# Altium footprint library F429_F746_F767_Core.PcbLib: 18 footprints (part 1 of 2)
Each footprint in its own frame and in the unit in brackets; x right, y up, seen from the top. Pads: shape width x height; smd on the part's side, far side on the other; paste and mask are expansions set on the pad; w line width, h text height; cw(c..) or ccw(c..) is an arc to the next point about the centre after c.
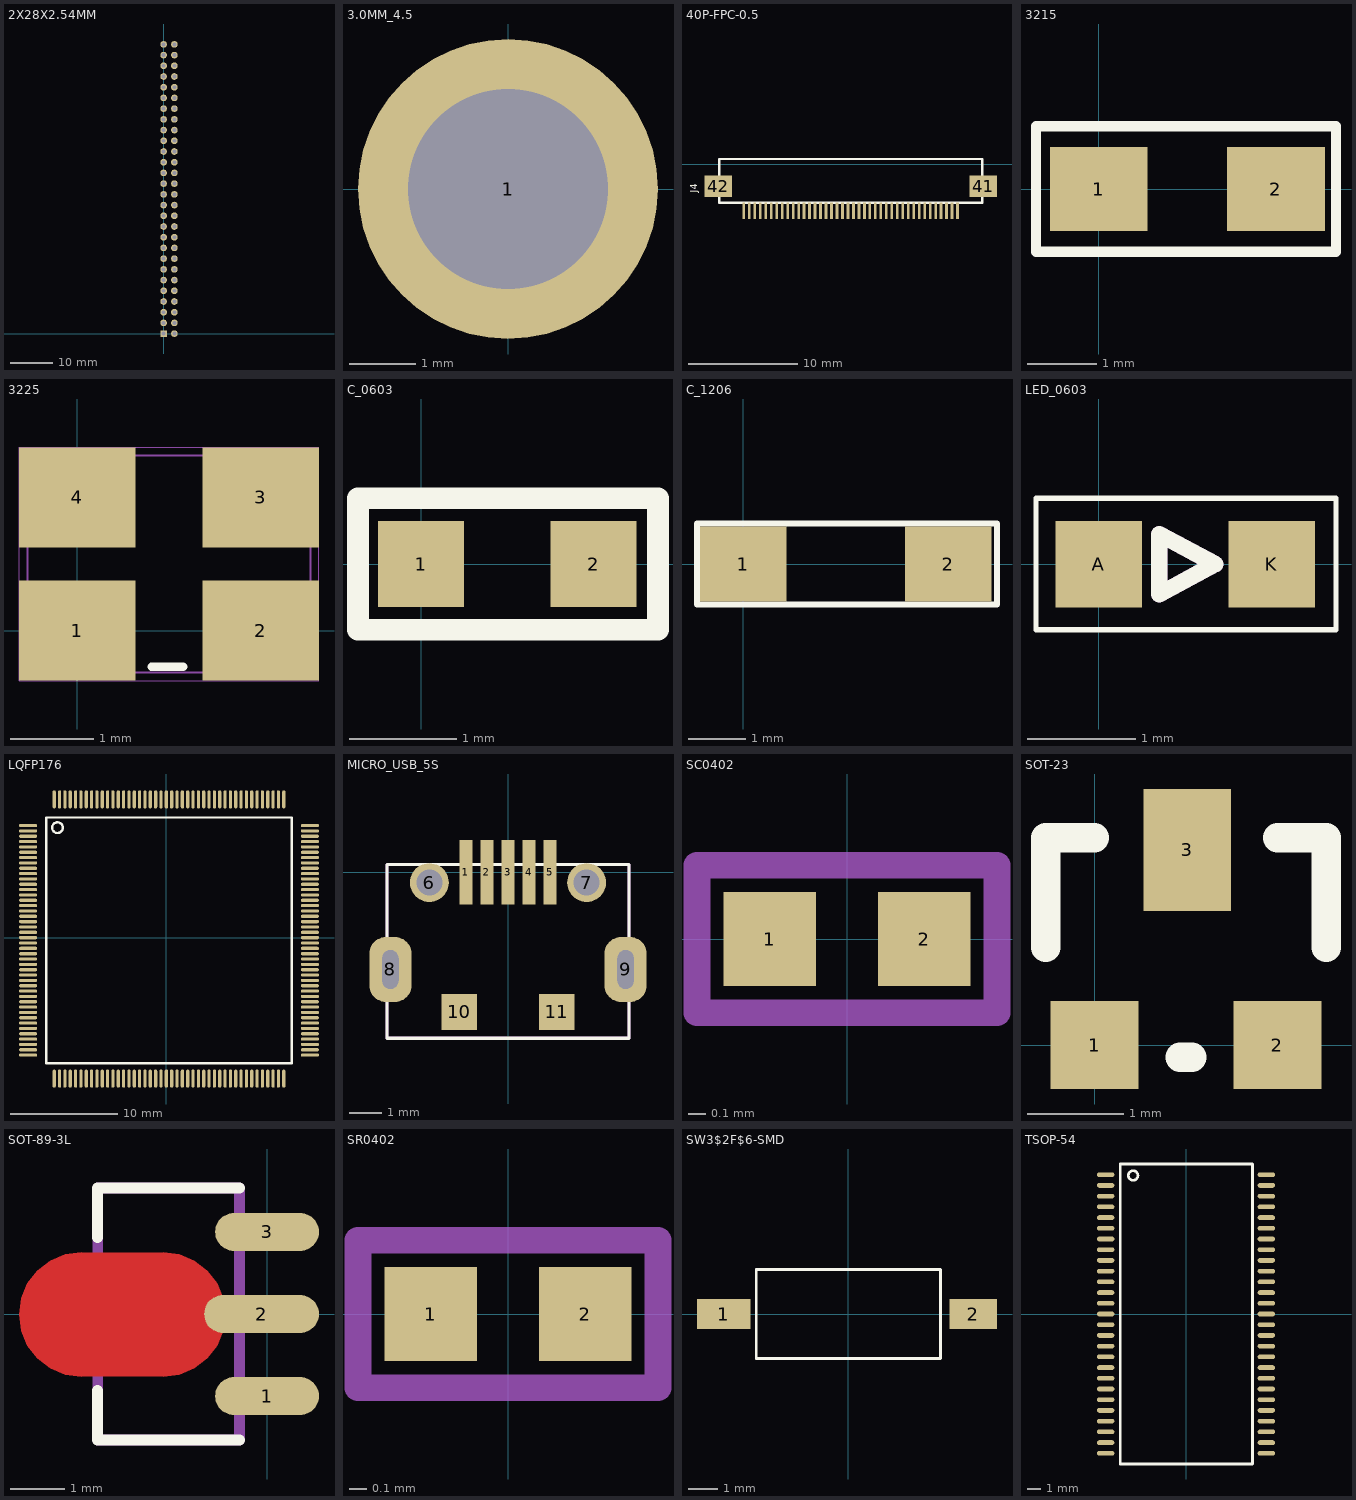
[diagram p0: the footprints below, top view; thin cyan lines are the x and y axes]

## 2X28X2.54MM [mil]
pads (56):
  rect 62x62 hole 35.43: 1(0,0)
  round 62 hole 35.43: 2(100,0) 3(0,100) 4(100,100) 5(0,200) 6(100,200) 7(0,300) 8(100,300) 9(0,400) 10(100,400) 11(0,500) 12(100,500) 13(0,600) 14(100,600) 15(0,700) 16(100,700) 17(0,800) 18(100,800) 19(0,900) 20(100,900) 21(0,1000) 22(100,1000) 23(0,1100) 24(100,1100) 25(0,1200) 26(100,1200) 27(0,1300) 28(100,1300) 29(0,1400) 30(100,1400) 31(0,1500) 32(100,1500) 33(0,1600) 34(100,1600) 35(0,1700) 36(100,1700) 37(0,1800) 38(100,1800) 39(0,1900) 40(100,1900) 41(0,2000) 42(100,2000) 43(0,2100) 44(100,2100) 45(0,2200) 46(100,2200) 47(0,2300) 48(100,2300) 49(0,2400) 50(100,2400) 51(0,2500) 52(100,2500) 53(0,2600) 54(100,2600) 55(0,2700) 56(100,2700)
Bottom Overlay:
  lines w12: -50,50 50,50 50,-50 ; -50,-50 -50,2750 150,2750 150,-50 -50,-50

## 3.0MM_4.5 [mm]
pads (1):
  round 4.5 hole 3: 1(0,0)

## 40P-FPC-0.5 [mm]
pads (42):
  rect 0.25x1.5 smd: 1(6,-4.25) 2(6.5,-4.25) 3(7,-4.25) 4(7.5,-4.25) 5(8,-4.25) 6(8.5,-4.25) 7(9,-4.25) 8(9.5,-4.25) 9(10,-4.25) 10(10.5,-4.25) 11(11,-4.25) 12(11.5,-4.25) 13(12,-4.25) 14(12.5,-4.25) 15(13,-4.25) 16(13.5,-4.25) 17(14,-4.25) 18(14.5,-4.25) 19(15,-4.25) 20(15.5,-4.25) 21(16,-4.25) 22(16.5,-4.25) 23(17,-4.25) 24(17.5,-4.25) 25(18,-4.25) 26(18.5,-4.25) 27(19,-4.25) 28(19.5,-4.25) 29(20,-4.25) 30(20.5,-4.25) 31(21,-4.25) 32(21.5,-4.25) 33(22,-4.25) 34(22.5,-4.25) 35(23,-4.25) 36(23.5,-4.25) 37(24,-4.25) 38(24.5,-4.25) 39(25,-4.25) 40(25.5,-4.25)
  rect 2.5x2 smd: 41(27.85,-2) 42(3.65,-2)
Top Overlay:
  lines w0.2: 3.75,-3.5 3.75,0.5 27.75,0.5 27.75,-3.5 3.75,-3.5
  text "J4" at 1.727,-2.591 h0.64

## 3215 [mm]
pads (2):
  rect 1.4x1.2 smd: 1(0,0) 2(2.54,0)
Top Overlay:
  lines w0.15: -0.9,-0.9 3.4,-0.9 3.4,0.9 -0.9,0.9 -0.9,-0.9

## 3225 [mm]
pads (4):
  rect 1.4x1.2 smd paste-0.06 mask+0.05: 1(0,0) 2(2.2,0) 3(2.2,1.6) 4(0,1.6)
Top Overlay:
  lines w0.1: 0.889,-0.432 1.27,-0.432
Mechanical 13:
  lines w0.025: -0.6,-0.5 2.8,-0.5 2.8,2.1 -0.6,2.1 -0.6,-0.5
Mechanical 14:
  lines w0.003: -0.7,-0.6 2.9,-0.6 2.9,2.2 -0.7,2.2 -0.7,-0.6

## C_0603 [mm]
pads (2):
  rect 0.8x0.8 smd: 1(0,0) 2(1.6,0)
Top Overlay:
  lines w0.2: -0.584,-0.61 2.197,-0.61 2.197,0.61 -0.584,0.61 -0.584,-0.61

## C_1206 [mm]
pads (2):
  rect 1.5x1.3 smd: 1(0,0) 2(3.556,0)
Top Overlay:
  lines w0.1: -0.8,-0.7 -0.8,0.7 4.4,0.7 4.4,-0.7 -0.8,-0.7

## LED_0603 [mm]
pads (2):
  rect 0.8x0.8 smd: A(0,0) K(1.6,0)
Top Overlay:
  lines w0.051: -0.579,-0.605 2.193,-0.605 2.193,0.607 -0.579,0.607 -0.579,-0.605
  lines w0.152: 0.562,-0.277 1.076,0.001 ; 0.562,-0.277 0.562,0.277 ; 0.562,-0.277 1.076,0.001 ; 0.562,-0.277 0.562,0.277 ; 0.562,0.277 1.076,0.001 ; 0.562,0.277 1.076,0.001
Mechanical 1:
  lines w0.152: 0.562,-0.277 1.076,0.001 0.562,0.277 0.562,-0.277

## LQFP176 [mm]
height 2.16
pads (176):
  oval 1.7x0.3 smd: 1(-12.95,10.5) 2(-12.95,10) 3(-12.95,9.5) 4(-12.95,9) 5(-12.95,8.5) 6(-12.95,8) 7(-12.95,7.5) 8(-12.95,7) 9(-12.95,6.5) 10(-12.95,6) 11(-12.95,5.5) 12(-12.95,5) 13(-12.95,4.5) 14(-12.95,4) 15(-12.95,3.5) 16(-12.95,3) 17(-12.95,2.5) 18(-12.95,2) 19(-12.95,1.5) 20(-12.95,1) 21(-12.95,0.5) 22(-12.95,0) 23(-12.95,-0.5) 24(-12.95,-1) 25(-12.95,-1.5) 26(-12.95,-2) 27(-12.95,-2.5) 28(-12.95,-3) 29(-12.95,-3.5) 30(-12.95,-4) 31(-12.95,-4.5) 32(-12.95,-5) 33(-12.95,-5.5) 34(-12.95,-6) 35(-12.95,-6.5) 36(-12.95,-7) 37(-12.95,-7.5) 38(-12.95,-8) 39(-12.95,-8.5) 40(-12.95,-9) 41(-12.95,-9.5) 42(-12.95,-10) 43(-12.95,-10.5) 44(-12.95,-11) 89(13.45,-11) 90(13.45,-10.5) 91(13.45,-10) 92(13.45,-9.5) 93(13.45,-9) 94(13.45,-8.5) 95(13.45,-8) 96(13.45,-7.5) 97(13.45,-7) 98(13.45,-6.5) 99(13.45,-6) 100(13.45,-5.5) 101(13.45,-5) 102(13.45,-4.5) 103(13.45,-4) 104(13.45,-3.5) 105(13.45,-3) 106(13.45,-2.5) 107(13.45,-2) 108(13.45,-1.5) 109(13.45,-1) 110(13.45,-0.5) 111(13.45,0) 112(13.45,0.5) 113(13.45,1) 114(13.45,1.5) 115(13.45,2) 116(13.45,2.5) 117(13.45,3) 118(13.45,3.5) 119(13.45,4) 120(13.45,4.5) 121(13.45,5) 122(13.45,5.5) 123(13.45,6) 124(13.45,6.5) 125(13.45,7) 126(13.45,7.5) 127(13.45,8) 128(13.45,8.5) 129(13.45,9) 130(13.45,9.5) 131(13.45,10) 132(13.45,10.5)
  oval 0.3x1.7 smd: 45(-10.5,-13.2) 46(-10,-13.2) 47(-9.5,-13.2) 48(-9,-13.2) 49(-8.5,-13.2) 50(-8,-13.2) 51(-7.5,-13.2) 52(-7,-13.2) 53(-6.5,-13.2) 54(-6,-13.2) 55(-5.5,-13.2) 56(-5,-13.2) 57(-4.5,-13.2) 58(-4,-13.2) 59(-3.5,-13.2) 60(-3,-13.2) 61(-2.5,-13.2) 62(-2,-13.2) 63(-1.5,-13.2) 64(-1,-13.2) 65(-0.5,-13.2) 66(0,-13.2) 67(0.5,-13.2) 68(1,-13.2) 69(1.5,-13.2) 70(2,-13.2) 71(2.5,-13.2) 72(3,-13.2) 73(3.5,-13.2) 74(4,-13.2) 75(4.5,-13.2) 76(5,-13.2) 77(5.5,-13.2) 78(6,-13.2) 79(6.5,-13.2) 80(7,-13.2) 81(7.5,-13.2) 82(8,-13.2) 83(8.5,-13.2) 84(9,-13.2) 85(9.5,-13.2) 86(10,-13.2) 87(10.5,-13.2) 88(11,-13.2) 133(11,12.95) 134(10.5,12.95) 135(10,12.95) 136(9.5,12.95) 137(9,12.95) 138(8.5,12.95) 139(8,12.95) 140(7.5,12.95) 141(7,12.95) 142(6.5,12.95) 143(6,12.95) 144(5.5,12.95) 145(5,12.95) 146(4.5,12.95) 147(4,12.95) 148(3.5,12.95) 149(3,12.95) 150(2.5,12.95) 151(2,12.95) 152(1.5,12.95) 153(1,12.95) 154(0.5,12.95) 155(0,12.95) 156(-0.5,12.95) 157(-1,12.95) 158(-1.5,12.95) 159(-2,12.95) 160(-2.5,12.95) 161(-3,12.95) 162(-3.5,12.95) 163(-4,12.95) 164(-4.5,12.95) 165(-5,12.95) 166(-5.5,12.95) 167(-6,12.95) 168(-6.5,12.95) 169(-7,12.95) 170(-7.5,12.95) 171(-8,12.95) 172(-8.5,12.95) 173(-9,12.95) 174(-9.5,12.95) 175(-10,12.95) 176(-10.5,12.95)
Top Overlay:
  circle w0.22: c-10.2,10.3 r0.5
  lines w0.22: -11.25,-11.75 11.75,-11.75 ; -11.25,-11.75 -11.25,11.25 ; -11.25,-11.75 11.75,-11.75 ; -11.25,-11.75 -11.25,11.25 ; -11.25,11.25 11.75,11.25 ; -11.25,11.25 11.75,11.25 ; 11.75,-11.75 11.75,11.25 ; 11.75,-11.75 11.75,11.25

## MICRO_USB_5S [mm]
pads (11):
  rect 0.4x2 smd: 1(-1.3,0) 2(-0.65,0) 3(0,0) 4(0.65,0) 5(1.3,0)
  round 1.2 hole 0.8: 6(-2.425,-0.32) 7(2.425,-0.32)
  rrect77% 1.3x2 hole 0.5 slot 1.2 at 90 deg: 8(-3.625,-3) 9(3.625,-3)
  rect 1.1x1.1 smd: 10(-1.5,-4.31) 11(1.5,-4.31)
Top Overlay:
  lines w0.1: -3.73,-5.12 3.73,-5.12 3.73,0.235 -3.73,0.235 -3.73,-5.12
Mechanical 1:
  lines w0.1: -3.73,-5.12 3.73,-5.12 3.73,0.235 -3.73,0.235 -3.73,-5.12

## SC0402 [mm]
pads (2):
  rect 0.52x0.53 smd: 1(-0.435,0) 2(0.435,0)
Mechanical 1:
  lines w0.15: -0.845,-0.415 0.845,-0.415 0.845,0.415 -0.845,0.415 -0.845,-0.415

## SOT-23 [mil]
pads (3):
  rect 36x36 smd: 1(0,0) 2(75,0)
  rect 36x50 smd: 3(38,80)
Top Overlay:
  lines w12: -20,40 -20,85 0,85 ; 35,-5 40,-5 ; 75,85 95,85 95,40

## SOT-89-3L [mm]
pads (3):
  oval 1.9x0.7 smd: 1(0,-1.5) 3(0,1.5)
  oval 2.1x0.7 smd: 2(-0.1,0)
Top Layer:
  region: -3.399,-1.136 -1.899,-1.145 -1.605,-1.107 -1.33,-0.993 -1.095,-0.812 -0.914,-0.577 -0.801,-0.303 -0.762,-0.009 -0.801,0.286 -0.914,0.56 -1.095,0.795 -1.33,0.976 -1.605,1.089 -1.899,1.128 -1.899,1.118 -3.399,1.128 -3.693,1.089 -3.967,0.976 -4.202,0.795 -4.383,0.56 -4.497,0.286 -4.535,-0.009 -4.497,-0.303 -4.383,-0.577 -4.202,-0.812 -3.967,-0.993 -3.693,-1.107 -3.399,-1.145
Top Overlay:
  lines w0.2: -3.1,-1.4 -3.1,-2.3 -0.5,-2.3 ; -3.1,1.4 -3.1,2.3 -0.5,2.3
Mechanical 14:
  lines w0.2: -3.095,-2.3 -3.095,2.3 -0.505,2.3 -0.505,-2.3 -3.095,-2.3

## SR0402 [mm]
pads (2):
  rect 0.52x0.53 smd: 1(-0.435,0) 2(0.435,0)
Mechanical 1:
  lines w0.15: -0.845,-0.415 0.845,-0.415 0.845,0.415 -0.845,0.415 -0.845,-0.415

## SW3$2F$6-SMD [mm]
pads (2):
  rect 1.8x1 smd: 1(-4.191,0)
  rect 1.6x1 smd: 2(4.191,0)
Top Overlay:
  lines w0.1: -3.1,-1.5 -3.1,1.5 3.1,1.5 3.1,-1.5 -3.1,-1.5

## TSOP-54 [mm]
pads (54):
  oval 1.3x0.35 smd: 1(-6,10.4) 2(-6,9.6) 3(-6,8.8) 4(-6,8) 5(-6,7.2) 6(-6,6.4) 7(-6,5.6) 8(-6,4.8) 9(-6,4) 10(-6,3.2) 11(-6,2.4) 12(-6,1.6) 13(-6,0.8) 14(-6,0) 15(-6,-0.8) 16(-6,-1.6) 17(-6,-2.4) 18(-6,-3.2) 19(-6,-4) 20(-6,-4.8) 21(-6,-5.6) 22(-6,-6.4) 23(-6,-7.2) 24(-6,-8) 25(-6,-8.8) 26(-6,-9.6) 27(-6,-10.4) 28(6,-10.4) 29(6,-9.6) 30(6,-8.8) 31(6,-8) 32(6,-7.2) 33(6,-6.4) 34(6,-5.6) 35(6,-4.8) 36(6,-4) 37(6,-3.2) 38(6,-2.4) 39(6,-1.6) 40(6,-0.8) 41(6,0) 42(6,0.8) 43(6,1.6) 44(6,2.4) 45(6,3.2) 46(6,4) 47(6,4.8) 48(6,5.6) 49(6,6.4) 50(6,7.2) 51(6,8) 52(6,8.8) 53(6,9.6) 54(6,10.4)
Top Overlay:
  circle w0.2: c-3.95,10.34 r0.361
  lines w0.2: -4.9,-11.2 4.96,-11.2 ; -4.9,-11.2 -4.9,11.2 ; -4.9,-11.2 4.96,-11.2 ; -4.9,-11.2 -4.9,11.2 ; -4.9,11.2 4.96,11.2 ; -4.9,11.2 4.96,11.2 ; 4.96,-11.2 4.96,11.2 ; 4.96,-11.2 4.96,11.2